# Altium schematic symbol library T50201500000G.SchLib: 1 symbol
Pins are listed as number, name and electrical type; pins without a type are passive.

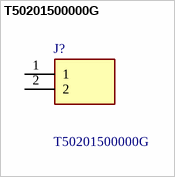
[diagram p0: symbol T50201500000G]

## T50201500000G
designator J?
Pluggable Terminal Blocks TB WIR PRO 180D SOL; Manufacturer_Name: Amphenol; Geometry.Height: 8.9mm; Mouser Part Number: 649-T502015000J0G; Mouser Price/Stock: https://www.mouser.co.uk/ProductDetail/Amphenol-Anytek/T50201500000G?qs=Mv7BduZupUj7X%2FJbrShOSA%3D%3D; Manufacturer_Part_Number: T50201500000G; Datasheet Link: https://www.mouser.co.uk/datasheet/2/18/9t_Oefo5So2A-1379158.pdf
footprint T50201500000G
pins: 1, 2